# Altium schematic symbol library TSW-108-14-G-S-LL.SchLib: 1 symbol
Pins are listed as number, name and electrical type; pins without a type are passive.

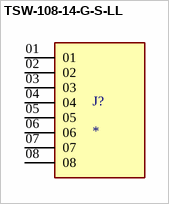
[diagram p0: symbol TSW-108-14-G-S-LL]

## TSW-108-14-G-S-LL
designator J?
MP: TSW-108-14-G-S-LL; Package: None; Price: None; Value: *; Availability: Unavailable
footprint SAMTEC_TSW-108-14-G-S-LL
pins: 01, 02, 03, 04, 05, 06, 07, 08